# EAGLE library part MINIPROP (library mes_miniprop)
MiniProp: Parallax Propeller on 36-DIP form factor Board designed by Michael Shimniok Bot Thoughts Robotics Blog <http://www.bot-thoughts.com/>
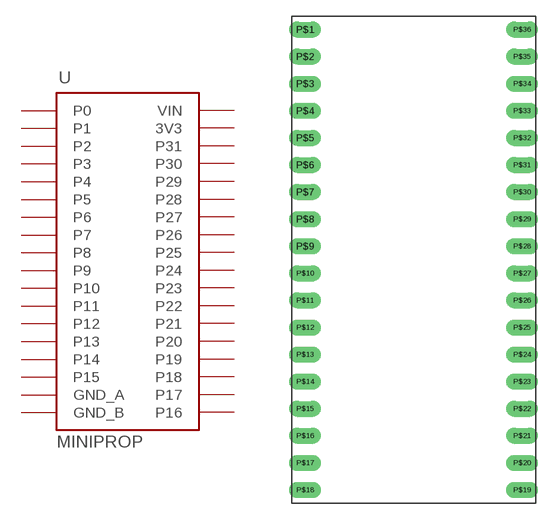
[diagram p0: symbol with the pads of MINIPROP; footprint MINIPROP]

Designator prefix -

## MINIPROP  [MINIPROP]
P$1  P0
P$2  P1
P$3  P2
P$4  P3
P$5  P4
P$6  P5
P$7  P6
P$8  P7
P$9  P8
P$10  P9
P$11  P10
P$12  P11
P$13  P12
P$14  P13
P$15  P14
P$16  P15
P$17  GND_A
P$18  GND_B
P$19  P16
P$20  P17
P$21  P18
P$22  P19
P$23  P20
P$24  P21
P$25  P22
P$26  P23
P$27  P24
P$28  P25
P$29  P26
P$30  P27
P$31  P28
P$32  P29
P$33  P30
P$34  P31
P$35  3V3
P$36  VIN

## Footprint MINIPROP (pad centres in mm)
drill 1 long: P$1 -10.16,21.59; P$2 -10.16,19.05; P$3 -10.16,16.51; P$4 -10.16,13.97; P$5 -10.16,11.43; P$6 -10.16,8.89; P$7 -10.16,6.35; P$8 -10.16,3.81; P$9 -10.16,1.27; P$10 -10.16,-1.27; P$11 -10.16,-3.81; P$12 -10.16,-6.35; P$13 -10.16,-8.89; P$14 -10.16,-11.43; P$15 -10.16,-13.97; P$16 -10.16,-16.51; P$17 -10.16,-19.05; P$18 -10.16,-21.59; P$19 10.16,-21.59; P$20 10.16,-19.05; P$21 10.16,-16.51; P$22 10.16,-13.97; P$23 10.16,-11.43; P$24 10.16,-8.89; P$25 10.16,-6.35; P$26 10.16,-3.81; P$27 10.16,-1.27; P$28 10.16,1.27; P$29 10.16,3.81; P$30 10.16,6.35; P$31 10.16,8.89; P$32 10.16,11.43; P$33 10.16,13.97; P$34 10.16,16.51; P$35 10.16,19.05; P$36 10.16,21.59